# EAGLE library part ESP01 (library SPCoast)
ESP8266 Wifi module 01
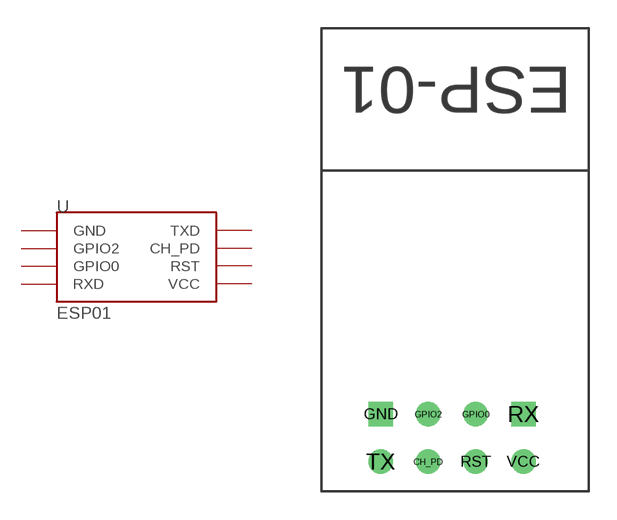
[diagram p48: symbol with the pads of ESP01; footprint ESP01]

Designator prefix -

## ESP01  [ESP01]
CH_PD  CH_PD
GND  GND
GPIO0  GPIO0
GPIO2  GPIO2
RST  RST
RX  RXD
TX  TXD
VCC  VCC

## Footprint ESP01 (pad centres in mm)
ESP8266 Module 01
drill 0.8: CH_PD -1.285,-8.178; GPIO0 1.255,-5.638; GPIO2 -1.285,-5.638; RST 1.255,-8.178; TX -3.825,-8.178; VCC 3.795,-8.178
drill 0.8 square: GND -3.825,-5.638; RX 3.795,-5.638